# EAGLE library part AP6320 (library Diodes_Inc_AP6320)
AP6320 Synchronous Buck Converters Diodes' buck converters provide ultra-low IQ solution with best-in-class EMI performance Diodes' AP63200, AP63201, AP63203, and AP63205 are 2 A synchronous buck converters with a wide input voltage range of 3.8 V to 32 V supporting 5 V, 12 V, and 24 V power supplies. Integrated 125 mΩ high-side and a 68 mΩ low-side power MOSFETs provide high-efficiency step-down DC-DC conversion. The AP63200, AP63203, and AP63205 utilize pulse frequency modulation (PFM) with an ultra-low quiescent current of 22 µA, which provides efficiencies up to 80% and 88% during light load conditions of 1 mA and 5 mA, respectively. The AP63203 and AP63205 are fixed output buck converters with optimized design for reduced electromagnetic interference (EMI). The AP63201 operates in pulse width modulation (PWM) where the switching frequency is relatively fixed regardless of output load. All members have optimized EMI, utilizing frequency spread spectrum (FSS) with a switching frequency jitter of ±6% further reduces EMI. Further EMI improvements are achieved through its proprietary gate driver scheme which reduces switching node ringing without sacrificing MOSFET turn-on and turn-off times. The device is available in a low-profile TSOT26 package.
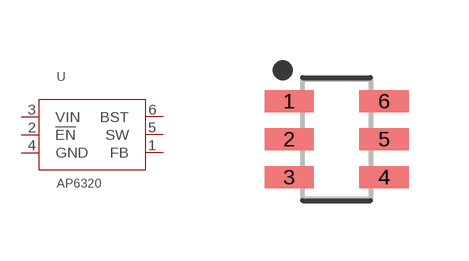
[diagram p0: symbol with the pads of SOT95P280X100-6N; footprint SOT95P280X100-6N]

Designator prefix U

## AP63200WU-7  [SOT95P280X100-6N]
1  FB  pwr
2  !EN  in
3  VIN  pwr
4  GND  sup
5  SW
6  BST

## AP63201WU-7  [SOT95P280X100-6N]
Pads as for SOT95P280X100-6N

## AP63203WU-7  [SOT95P280X100-6N]
Pads as for SOT95P280X100-6N

## AP63205WU-7  [SOT95P280X100-6N]
Pads as for SOT95P280X100-6N

## Footprint SOT95P280X100-6N (pad centres in mm)
6-SOT23, 0.95 mm pitch, 2.80 mm span, 2.90 X 1.60 X 1.00 mm body 6-pin SOT23 package with 0.95 mm pitch, 2.80 mm span with body size 2.90 X 1.60 X 1.00 mm
smd 1.237 x 0.547: 1 -1.187,0.95; 2 -1.187,0; 3 -1.187,-0.95; 4 1.187,-0.95; 5 1.187,0; 6 1.187,0.95